# Altium schematic symbol library CY8C29466.SchLib: 1 symbol
Pins are listed as number, name and electrical type; pins without a type are passive.

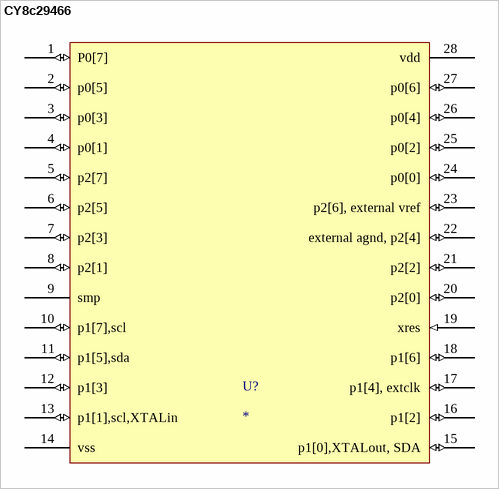
[diagram p0: symbol CY8c29466]

## CY8c29466
designator U?
footprint CY8C29466
pins: 1 P0[7] (io), 2 p0[5] (io), 3 p0[3] (io), 4 p0[1] (io), 5 p2[7] (io), 6 p2[5] (io), 7 p2[3] (io), 8 p2[1] (io), 9 smp (power), 10 p1[7],scl (io), 11 p1[5],sda (io), 12 p1[3] (io), 13 p1[1],scl,XTALin (io), 14 vss (power), 15 p1[0],XTALout, SDA (io), 16 p1[2] (io), 17 p1[4], extclk (io), 18 p1[6] (io), 19 xres (in), 20 p2[0] (io), 21 p2[2] (io), 22 external agnd, p2[4] (io), 23 p2[6], external vref (io), 24 p0[0] (io), 25 p0[2] (io), 26 p0[4] (io), 27 p0[6] (io), 28 vdd (power)